# Altium schematic symbol library Schlib1.SchLib: 5 symbols
Pins are listed as number, name and electrical type; pins without a type are passive.

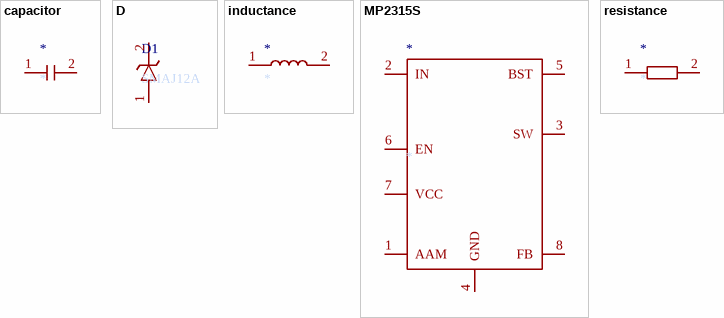
[diagram p0: symbols capacitor to resistance]

## capacitor
designator *
footprint 1206C
pins: 1, 2

## D
designator D1, comment SMAJ12A
pins: 1, 2

## inductance
designator *
pins: 1, 2

## MP2315S
designator *
pins: 1 AAM, 2 IN, 3 SW, 4 GND, 5 BST, 6 EN, 7 VCC, 8 FB

## resistance
designator *
pins: 1, 2